# EAGLE library part ESP32-U4WDH (library shrew-core)
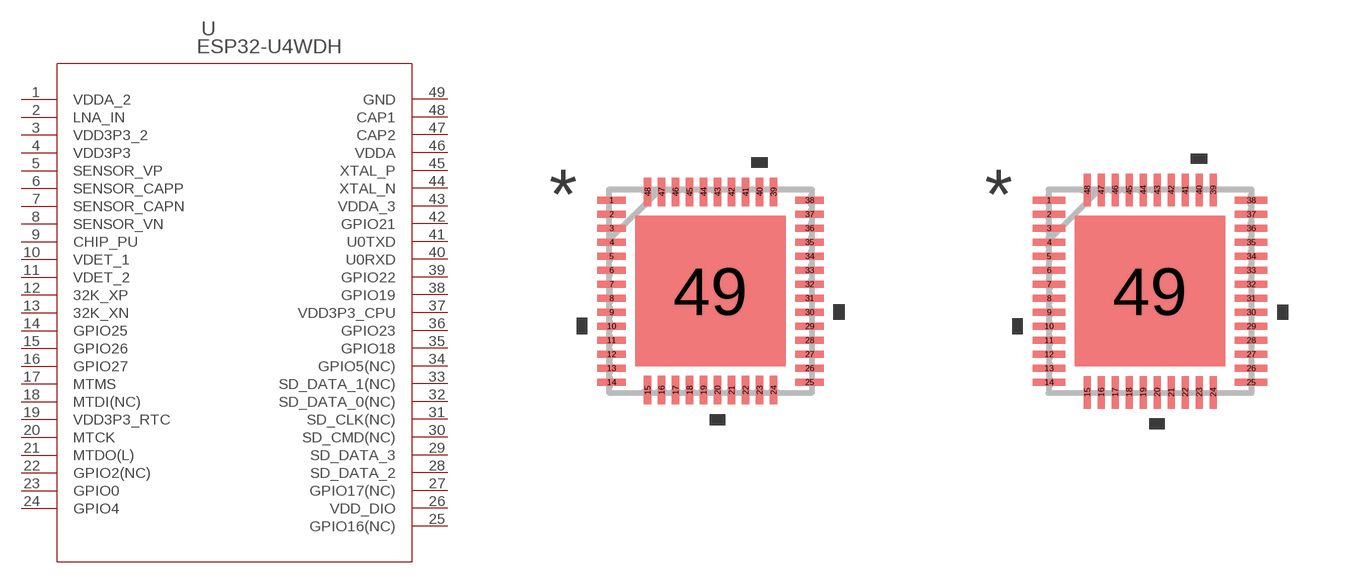
[diagram p0: symbol with the pads of QFN48_5X5_EXP; footprints QFN48_5X5_EXP, QFN48_5X5_EXP-M]

Designator prefix U

## ESP32-U4WDH (COPYRIGHT: Copyright (C) 2024 Ultra Librarian. All rights reserved.; MANUFACTURER_PART_NUMBER: ESP32-U4WDH; MFR_NAME: Espressif Systems)  [QFN48_5X5_EXP]
1  VDDA_2  pwr
2  LNA_IN
3  VDD3P3_2  pwr
4  VDD3P3  pwr
5  SENSOR_VP  in
6  SENSOR_CAPP  in
7  SENSOR_CAPN  in
8  SENSOR_VN  in
9  CHIP_PU  in
10  VDET_1  in
11  VDET_2  in
12  32K_XP
13  32K_XN
14  GPIO25
15  GPIO26
16  GPIO27
17  MTMS
18  MTDI(NC)
19  VDD3P3_RTC  pwr
20  MTCK
21  MTDO(L)
22  GPIO2(NC)
23  GPIO0
24  GPIO4
25  GPIO16(NC)
26  VDD_DIO  pwr
27  GPIO17(NC)
28  SD_DATA_2
29  SD_DATA_3
30  SD_CMD(NC)
31  SD_CLK(NC)
32  SD_DATA_0(NC)
33  SD_DATA_1(NC)
34  GPIO5(NC)
35  GPIO18
36  GPIO23
37  VDD3P3_CPU  pwr
38  GPIO19
39  GPIO22
40  U0RXD
41  U0TXD
42  GPIO21
43  VDDA_3  pwr
44  XTAL_N  out
45  XTAL_P  in
46  VDDA  pwr
47  CAP2
48  CAP1
49  GND  pas

## ESP32-U4WDHQFN48_5X5_EXP-M (COPYRIGHT: Copyright (C) 2024 Ultra Librarian. All rights reserved.; MANUFACTURER_PART_NUMBER: ESP32-U4WDH; MFR_NAME: Espressif Systems)  [QFN48_5X5_EXP-M]
Pads as for QFN48_5X5_EXP

## ESP32-U4WDHQFN48_5X5_EXP-L (COPYRIGHT: Copyright (C) 2024 Ultra Librarian. All rights reserved.; MANUFACTURER_PART_NUMBER: ESP32-U4WDH; MFR_NAME: Espressif Systems)  [QFN48_5X5_EXP-L]
Pads as for QFN48_5X5_EXP

## Footprint QFN48_5X5_EXP (pad centres in mm)
smd 0.711 x 0.178: 1 -2.477,2.275; 2 -2.477,1.925; 3 -2.477,1.575; 4 -2.477,1.225; 5 -2.477,0.875; 6 -2.477,0.525; 7 -2.477,0.175; 8 -2.477,-0.175; 9 -2.477,-0.525; 10 -2.477,-0.875; 11 -2.477,-1.225; 12 -2.477,-1.575; 13 -2.477,-1.925; 14 -2.477,-2.275; 25 2.477,-2.275; 26 2.477,-1.925; 27 2.477,-1.575; 28 2.477,-1.225; 29 2.477,-0.875; 30 2.477,-0.525; 31 2.477,-0.175; 32 2.477,0.175; 33 2.477,0.525; 34 2.477,0.875; 35 2.477,1.225; 36 2.477,1.575; 37 2.477,1.925; 38 2.477,2.275
smd 0.178 x 0.711: 15 -1.575,-2.477; 16 -1.225,-2.477; 17 -0.875,-2.477; 18 -0.525,-2.477; 19 -0.175,-2.477; 20 0.175,-2.477; 21 0.525,-2.477; 22 0.875,-2.477; 23 1.225,-2.477; 24 1.575,-2.477; 39 1.575,2.477; 40 1.225,2.477; 41 0.875,2.477; 42 0.525,2.477; 43 0.175,2.477; 44 -0.175,2.477; 45 -0.525,2.477; 46 -0.875,2.477; 47 -1.225,2.477; 48 -1.575,2.477
smd 3.759 x 3.759: 49 0,0

## Footprint QFN48_5X5_EXP-M (pad centres in mm)
smd 0.813 x 0.178: 1 -2.527,2.275; 2 -2.527,1.925; 3 -2.527,1.575; 4 -2.527,1.225; 5 -2.527,0.875; 6 -2.527,0.525; 7 -2.527,0.175; 8 -2.527,-0.175; 9 -2.527,-0.525; 10 -2.527,-0.875; 11 -2.527,-1.225; 12 -2.527,-1.575; 13 -2.527,-1.925; 14 -2.527,-2.275; 25 2.527,-2.275; 26 2.527,-1.925; 27 2.527,-1.575; 28 2.527,-1.225; 29 2.527,-0.875; 30 2.527,-0.525; 31 2.527,-0.175; 32 2.527,0.175; 33 2.527,0.525; 34 2.527,0.875; 35 2.527,1.225; 36 2.527,1.575; 37 2.527,1.925; 38 2.527,2.275
smd 0.178 x 0.813: 15 -1.575,-2.527; 16 -1.225,-2.527; 17 -0.875,-2.527; 18 -0.525,-2.527; 19 -0.175,-2.527; 20 0.175,-2.527; 21 0.525,-2.527; 22 0.875,-2.527; 23 1.225,-2.527; 24 1.575,-2.527; 39 1.575,2.527; 40 1.225,2.527; 41 0.875,2.527; 42 0.525,2.527; 43 0.175,2.527; 44 -0.175,2.527; 45 -0.525,2.527; 46 -0.875,2.527; 47 -1.225,2.527; 48 -1.575,2.527
smd 3.759 x 3.759: 49 0,0

## Footprint QFN48_5X5_EXP-L (pad centres in mm)
smd 0.61 x 0.178: 1 -2.426,2.275; 2 -2.426,1.925; 3 -2.426,1.575; 4 -2.426,1.225; 5 -2.426,0.875; 6 -2.426,0.525; 7 -2.426,0.175; 8 -2.426,-0.175; 9 -2.426,-0.525; 10 -2.426,-0.875; 11 -2.426,-1.225; 12 -2.426,-1.575; 13 -2.426,-1.925; 14 -2.426,-2.275; 25 2.426,-2.275; 26 2.426,-1.925; 27 2.426,-1.575; 28 2.426,-1.225; 29 2.426,-0.875; 30 2.426,-0.525; 31 2.426,-0.175; 32 2.426,0.175; 33 2.426,0.525; 34 2.426,0.875; 35 2.426,1.225; 36 2.426,1.575; 37 2.426,1.925; 38 2.426,2.275
smd 0.178 x 0.61: 15 -1.575,-2.426; 16 -1.225,-2.426; 17 -0.875,-2.426; 18 -0.525,-2.426; 19 -0.175,-2.426; 20 0.175,-2.426; 21 0.525,-2.426; 22 0.875,-2.426; 23 1.225,-2.426; 24 1.575,-2.426; 39 1.575,2.426; 40 1.225,2.426; 41 0.875,2.426; 42 0.525,2.426; 43 0.175,2.426; 44 -0.175,2.426; 45 -0.525,2.426; 46 -0.875,2.426; 47 -1.225,2.426; 48 -1.575,2.426
smd 3.759 x 3.759: 49 0,0